# Altium schematic symbol library TeCrea-Misc.SCHLIB: 96 symbols (part 3 of 3)
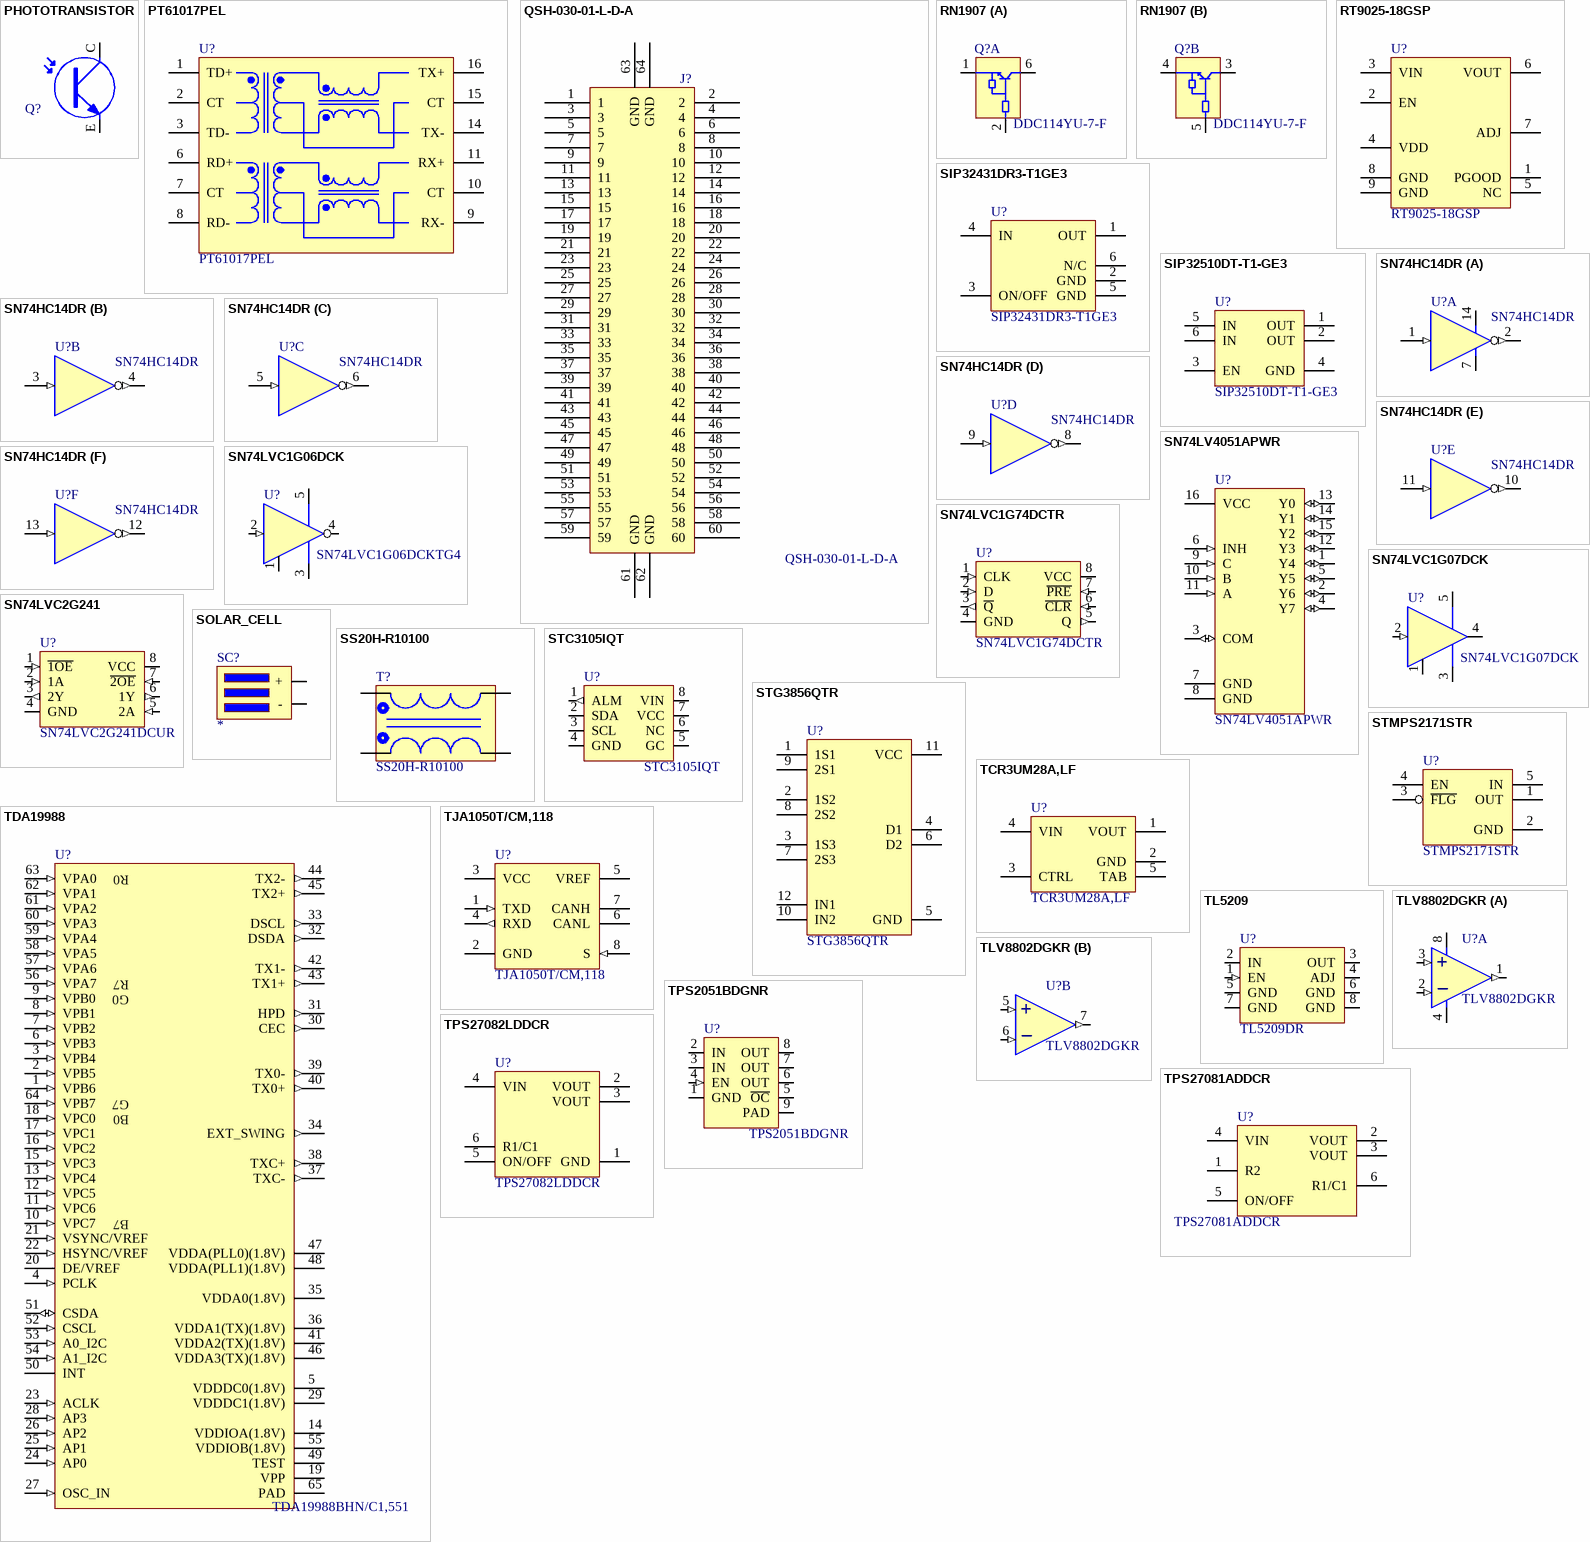
[diagram p6: symbols PHOTOTRANSISTOR to TPS27082LDDCR]

## SN74LV4051APWR
designator U?
IC MUX/DEMUX 8X1 16TSSOP; Manufacturer 1: Texas Instruments; Low Level Output Current: 25mA; Propagation Delay: 12ns; Bandwidth: 35MHz; Number of Channels: 1; Number of Inputs: 8; Max Supply Voltage: 5.5V; Min Supply Voltage: 2V; Nominal Supply Current: 20uA; Polarity: Non-Inverting; Logic Function: Multiplexer,Demultiplexer; On-State Resistance: 75R; Turn-On Delay Time: 28ns; Supply Type: Single; Supplier 1: Digi-Key; Manufacturer Part Number 1: SN74LV4051APWR; RoHS: Yes; Category: Interface ICs; Stock 1: 97091; Pricing 1: 1=0,39000, 10=0,33800, 25=0,31520, 100=0,25200, 250=0,23400, 500=0,19800, 1000=0,15300 (USD); Mount: Surface Mount; Case/Package: TSSOP; Number of Pins: 16; Weight: 0.002183oz; Contact Plating: Gold; Min Operating Temperature: -40°C; Max Operating Temperature: 85°C; Packaging: Tape and Reel; Package Quantity: 2000; High Level Output Current: 25mA; Number of Outputs: 1; Number of Bits: 8; Operating Supply Current: 20uA; Turn-Off Delay Time: 28ns; Number of Circuits: 1; Radiation Hardening: No; Lead Free: Lead Free; REACH SVHC: No SVHC; ComponentLink1URL: https://datasheet.ciiva.com/15127/getdatasheetpartid-300450-15127659.pdf?src-supplier=Verical; ComponentLink1Description: https://datasheet.ciiva.com/15127/getdatasheetpartid-300450-15127659.pdf?src-supplier=Verical; ComponentLink2URL: https://datasheet.ciiva.com/27051/1026350-27051257.pdf?src-supplier=Jameco; ComponentLink2Description: https://datasheet.ciiva.com/27051/1026350-27051257.pdf?src-supplier=Jameco; ComponentLink3URL: https://datasheet.ciiva.com/2980/sn74lv4051a-2980182.pdf?src-supplier=Avnet; ComponentLink3Description: https://datasheet.ciiva.com/2980/sn74lv4051a-2980182.pdf?src-supplier=Avnet; ComponentLink4URL: https://datasheet.ciiva.com/1669/sn74lv4051a-1669786.pdf?src-supplier=Digi-Key; ComponentLink4Description: https://datasheet.ciiva.com/1669/sn74lv4051a-1669786.pdf?src-supplier=Digi-Key; ComponentLink5URL: https://datasheet.ciiva.com/1669/sn74lv4051a-1669788.pdf?src-supplier=Digi-Key; ComponentLink5Description: https://datasheet.ciiva.com/1669/sn74lv4051a-1669788.pdf?src-supplier=Digi-Key; ComponentLink6URL: https://datasheet.ciiva.com/1669/sn74lv4051a-1669787.pdf?src-supplier=Digi-Key; ComponentLink6Description: https://datasheet.ciiva.com/1669/sn74lv4051a-1669787.pdf?src-supplier=Digi-Key; ComponentLink7URL: https://datasheet.ciiva.com/48711/001048021-da-01-en-ic-de-mux-8x-sn74lv4051apwr-tssop-16-tid-48711975.pdf?src-supplier=Conrad; ComponentLink7Description: https://datasheet.ciiva.com/48711/001048021-da-01-en-ic-de-mux-8x-sn74lv4051apwr-tssop-16-tid-48711975.pdf?src-supplier=Conrad; Value: SN74LV4051APWR; Supplier Part Number 1: 296-3829-1-ND
footprint TI-16TSSOP
pins: 1 Y4 (io), 2 Y6 (io), 3 COM (io), 4 Y7 (io), 5 Y5 (io), 6 INH (in), 7 GND, 8 GND, 9 C (in), 10 B (in), 11 A (in), 12 Y3 (io), 13 Y0 (io), 14 Y1 (io), 15 Y2 (io), 16 VCC

## SN74LVC1G06DCK
designator U?, comment SN74LVC1G06DCKTG4
IC INVERTER SINGLE 1INPUT SC705; Manufacturer: Texas Instruments; Logic Type: Inverter, Buffer; Number of Circuits: 1; Voltage - Supply: 1.65 V ~ 5.5 V; Current - Quiescent (Max): 10µA; Current - Output High, Low: -, 32mA; Logic Level - Low: 0.7 V ~ 0.8 V; Logic Level - High: 1.7 V ~ 2 V; Max Propagation Delay @ V, Max CL: 3ns @ 5V, 50pF; Populated: Yes; Supplier 1: Digi-Key; Supplier Part Number 1: SN74LVC1G06DCKTG4-ND; Manufacturer Part Number: SN74LVC1G06DCKTG4; RoHS: RoHS Compliant; Category: Integrated Circuits (ICs); Stock 1: 0; Pricing 1: 1250=0.32 (USD); Number of Inputs: 1; Features: Open Drain; Operating Temperature: -40°C ~ 85°C; Mounting Type: Surface Mount; Supplier Device Package: SC-70-5; Package / Case: 6-TSSOP (5 Lead), SC-88A, SOT-353; Packaging: Tape & Reel (TR); ComponentLink1URL: http://www.ti.com/lit/ds/symlink/sn74lvc1g06.pdf; ComponentLink1Description: http://www.ti.com/lit/ds/symlink/sn74lvc1g06.pdf; Value: SN74LVC1G06DCKTG4
footprint DCK5_2P15X1P4
pins: 1 NC, 2 A (in), 3 GND (power), 4 Y (oc), 5 VCC (power)

## SN74LVC1G07DCK
designator U?
IC BUFF/DVR NON-INVERT SC705; Manufacturer: Texas Instruments; Logic Type: Buffer; Number of Circuits: 1; Voltage - Supply: 1.65 V ~ 5.5 V; Current - Quiescent (Max): 10µA; Current - Output High, Low: -, 32mA; Logic Level - Low: 0.7 V ~ 0.8 V; Logic Level - High: 1.7 V ~ 2 V; Max Propagation Delay @ V, Max CL: 3ns @ 5V, 50pF; Populated: Yes; Manufacturer Part Number: SN74LVC1G07DCK; RoHS: RoHS Compliant; Category: Integrated Circuits (ICs); Number of Inputs: 1; Features: Open Drain; Operating Temperature: -40°C ~ 85°C; Mounting Type: Surface Mount; Supplier Device Package: SC-70-5; Package / Case: 6-TSSOP (5 Lead), SC-88A, SOT-353; Packaging: Tape & Reel (TR); ComponentLink1URL: http://www.ti.com/lit/ds/symlink/sn74lvc1g07.pdf; ComponentLink1Description: http://www.ti.com/lit/ds/symlink/sn74lvc1g07.pdf; Value: SN74LVC1G07DCK; Supplier 1: Digi-Key; Supplier Part Number 1: 296-8486-6-ND
footprint DCK5_2P15X1P4
pins: 1 NC, 2 A (in), 3 GND (power), 4 Y (oc), 5 VCC (power)

## SN74LVC1G74DCTR
designator U?
SINGLE  POSITIVE-EDGE-TRIGGERED  D-TYPE  FLIP-FLOP WITH  CLEAR  AND  PRESET; Manufacturer: Texas Instruments; Function: Set(Preset) and Reset; Output Type: Differential; Number of Elements: 1; Frequency - Clock: 200MHz; Delay Time - Propagation: 1.6ns; Trigger Type: Positive Edge; Current - Output High, Low: 32mA, 32mA; Voltage - Supply: 1.65 V ~ 5.5 V; Populated: Yes; Supplier 1: Digi-Key; Supplier Part Number 1: 296-25553-6-ND; Manufacturer Part Number: SN74LVC1G74DCTR; RoHS: RoHS Compliant; Category: Integrated Circuits (ICs); Stock 1: 131; Pricing 1: 1=0.59, 10=0.494, 25=0.4332, 100=0.3708, 250=0.3216, 500=0.2724, 1000=0.21 (USD); Type: D-Type; Number of Bits per Element: 1; Operating Temperature: -40°C ~ 125°C; Mounting Type: Surface Mount; Package / Case: 8-LSSOP (0.11", 2.80mm Width); Packaging: Digi-Reel®; ComponentLink1URL: http://media.digikey.com/pdf/Data%20Sheets/Texas%20Instruments%20PDFs/SN74LVC1G74.pdf; ComponentLink1Description: http://media.digikey.com/pdf/Data%20Sheets/Texas%20Instruments%20PDFs/SN74LVC1G74.pdf; Value: SN74LVC1G74DCTR
footprint SOP8_DCT
pins: 1 CLK (in), 2 D (in), 3 ~{Q} (out), 4 GND (power), 5 Q (out), 6 ~{CLR} (in), 7 ~{PRE} (in), 8 VCC (power)

## SN74LVC2G241
designator U?, comment SN74LVC2G241DCUR
IC BUFF/DVR TRI-ST DL 8VSSOP; Manufacturer: Texas Instruments; Logic Type: Buffer/Line Driver, Non-Inverting; Number of Elements: 2; Number of Bits per Element: 1; Current - Output High, Low: 32mA, 32mA; Voltage - Supply: 1.65 V ~ 5.5 V; Populated: Yes; Supplier 1: Digi-Key; Supplier Part Number 1: 296-11936-6-ND; Manufacturer Part Number: SN74LVC2G241DCUR; RoHS: RoHS Compliant; Category: Integrated Circuits (ICs); Stock 1: 28602; Pricing 1: 1=0.49, 10=0.428, 25=0.3756 (USD); Operating Temperature: -40°C ~ 85°C; Mounting Type: Surface Mount; Package / Case: 8-VFSOP (0.091", 2.30mm Width); Supplier Device Package: US8; Packaging: Digi-Reel®; ComponentLink1URL: http://www.ti.com/lit/ds/symlink/sn74lvc2g241.pdf; ComponentLink1Description: http://www.ti.com/lit/ds/symlink/sn74lvc2g241.pdf; Value: SN74LVC2G241DCUR
footprint U_8_DCU
pins: 1 ~{1OE} (in), 2 1A (in), 3 2Y (out), 4 GND (power), 5 2A (in), 6 1Y (out), 7 ~{2OE} (in), 8 VCC (power)

## SOLAR_CELL
designator SC?
Solar Cell; Value: *
footprint SOLAR_CELL (Solar Cell PADS)
pins: CELL+ +, CELL- -

## SS20H-R10100
designator T?
COMMON MODE CHOKE 1A 2 LN T/H; Manufacturer: Kemet; Filter Type: Power Line; Number of Lines: 2; Inductance @ Frequency: 10mH @ 1kHz; DC Resistance (DCR) (Max): 420 mOhm; Voltage Rating - AC: 250V; Populated: Yes; Supplier 1: Digi-Key; Supplier Part Number 1: 399-10681-ND; Manufacturer Part Number: SS20H-R10100; RoHS: RoHS Compliant; Category: Filters; Stock 1: 588; Pricing 1: 1=1.45, 10=1.416, 25=0.948, 50=0.8438, 100=0.7731, 250=0.6936, 500=0.67916, 1000=0.4913 (USD); Packaging: Bulk; Impedance @ Frequency: -; Current Rating (Max): 1A; Voltage Rating - DC: -; Operating Temperature: -25°C ~ 120°C; Ratings: -; Approvals: -; Features: -; Mounting Type: Through Hole; Size / Dimension: 0.866" L x 0.886" W (22.00mm x 22.00mm); Height (Max): 0.728" (18.50mm); Package / Case: Vertical, 4 PC Pin; ComponentLink1URL: http://www.kemet.com/docfinder?Partnumber=SS20H-R10100; ComponentLink1Description: http://www.kemet.com/docfinder?Partnumber=SS20H-R10100; Value: SS20H-R10100
footprint SS20H-R10100
pins: 1, 2, 3, 4

## STC3105IQT
designator U?
IC Battery Monitor GAS Gauge 8-TDFN; Manuf1: ST Microelectronics; Populated: Yes; Value: STC3105IQT; ROHS: Yes; PackageReference: TDFN8; Manuf1Partnumber: STC3105IQT; Supplier 1: Digi-Key; Supplier Part Number 1: 497-12092-1-ND
footprint TDFN-8
pins: 1 ALM (out), 2 SDA (io), 3 SCL (io), 4 GND, 5 GC, 6 NC, 7 VCC, 8 VIN

## STG3856QTR
designator U?
IC SWITCH DUAL SP3T 12QFN; Manufacturer: STMicroelectronics; Min Supply Voltage: 1.4V; Max Supply Voltage: 4.3V; Number of Inputs: 2; Number of Outputs: 6; On-State Resistance: 1R; Operating Supply Current: 50nA; Turn-On Delay Time: 50ns; Turn-Off Delay Time: 25ns; Max Power Dissipation: 18.5mW; Supply Type: Single; Supplier 1: Digi-Key; Manufacturer Part Number: STG3856QTR; Stock 1: 13091; Pricing 1: 1 = 1,33000, 10 = 1,18500, 100 = 0,92390, 500 = 0,76324, 1000 = 0,60255 (USD); RoHS: Yes; Mount: Surface Mount; Case/Package: QFN; Number of Pins: 12; Min Operating Temperature: -55°C; Max Operating Temperature: 125°C; Packaging: Tape and Reel; Package Quantity: 3000; Number of Channels: 2; Max Supply Current: 50nA; Throw Configuration: SP3T; Nominal Supply Current: 50nA; Radiation Hardening: No; Lead Free: Lead Free; ComponentLink1URL: https://datasheet.ciiva.com/2980/cd00081251-2980050.pdf?src-supplier=Avnet; ComponentLink1Description: https://datasheet.ciiva.com/2980/cd00081251-2980050.pdf?src-supplier=Avnet; ComponentLink2URL: https://datasheet.ciiva.com/4918/cd00081251-98660-4918076.pdf?src-supplier=Mouser; ComponentLink2Description: https://datasheet.ciiva.com/4918/cd00081251-98660-4918076.pdf?src-supplier=Mouser; ComponentLink3URL: https://datasheet.ciiva.com/41459/001185548-da-01-en-ic-switch-dual-sp3-stg3856qtr-qfn-12-stm-41459878.pdf?src-supplier=Conrad; ComponentLink3Description: https://datasheet.ciiva.com/41459/001185548-da-01-en-ic-switch-dual-sp3-stg3856qtr-qfn-12-stm-41459878.pdf?src-supplier=Conrad; ComponentLink4URL: https://datasheet.ciiva.com/17577/cd00081251-17577109.pdf?src-supplier=Avnet+Europe; ComponentLink4Description: https://datasheet.ciiva.com/17577/cd00081251-17577109.pdf?src-supplier=Avnet+Europe; ComponentLink5URL: https://datasheet.ciiva.com/16490/cd00081251-16490793.pdf?src-supplier=Future+Electronics; ComponentLink5Description: https://datasheet.ciiva.com/16490/cd00081251-16490793.pdf?src-supplier=Future+Electronics; Value: STG3856QTR; Supplier Part Number 1: 497-6174-1-ND
footprint QFN12L (QFN, 12-Leads, Body 1,40x2,20mm, Pitch 0,40mm, IPC Medium Density)
pins: 1 1S1, 2 1S2, 3 1S3, 4 D1, 5 GND, 6 D2, 7 2S3, 8 2S2, 9 2S1, 10 IN2, 11 VCC, 12 IN1

## STMPS2171STR
designator U?
IC PWR SWITCH 1CH 1000MA SOT23-5; Manufacturer: STMicroelectronics; Switch Type: General Purpose; Number of Outputs: 1; Ratio - Input:Output: 1:1; Output Configuration: High Side; Output Type: N-Channel; Interface: On/Off; Voltage - Load: 2.7 V ~ 5.5 V; Voltage - Supply (Vcc/Vdd): Not Required; Current - Output (Max): 1A; Rds On (Typ): 90 mOhm; Input Type: Non-Inverting; Fault Protection: Current Limiting (Fixed), Over Temperature, Reverse Current, UVLO; Supplier 1: Digi-Key; Manufacturer Part Number: STMPS2171STR; RoHS: RoHS Compliant; Category: Integrated Circuits (ICs); Stock 1: 3345; Pricing 1: 1=0.59, 10=0.52, 100=0.3987, 500=0.31518, 1000=0.25214 (USD); Packaging: Cut Tape (CT); Part Status: Active; Features: -; Operating Temperature: -40°C ~ 125°C (TJ); Package / Case: SC-74A, SOT-753; Supplier Device Package: SOT-23-5; ComponentLink1URL: http://www.st.com/content/ccc/resource/technical/document/datasheet/e8/d7/48/25/eb/87/45/b3/CD00167470.pdf/files/CD00167470.pdf/jcr:content/translations/en.CD00167470.pdf; ComponentLink1Description: http://www.st.com/content/ccc/resource/technical/document/datasheet/e8/d7/48/25/eb/87/45/b3/CD00167470.pdf/files/CD00167470.pdf/jcr:content/translations/en.CD00167470.pdf; Value: STMPS2171STR; Supplier Part Number 1: 497-6856-1-ND
footprint SOT23-5L (SOT23, 5-Leads, Body 2.90x2.80mm, Pitch 0.95mm, IPC Medium Density)
pins: 1 OUT, 2 GND, 3 ~{FLG}, 4 EN, 5 IN

## TCR3UM28A,LF
designator U?
LOW DROPOUT (LDO) LINEAR VOLTAGE 2.8V; Manufacturer: Toshiba; Supplier 1: Digi-Key; Manufacturer Part Number: TCR3UM28A,LF; Stock 1: 10000; Pricing 1: 10000 = 0,08525, 30000 = 0,07975, 50000 = 0,07150, 100000 = 0,07040 (USD); Value: TCR3UM28A,LF; Supplier Part Number 1: TCR3UM28ALFTR-ND
footprint DFN-4(TOSHIBA) (DFN4 1x1)
pins: 1 VOUT, 2 GND, 3 CTRL, 4 VIN, 5 TAB

## TDA19988
designator U?, comment TDA19988BHN/C1,551
IC HDMI TRANSMITTER 64-HVQFN; Manufacturer: NXP Semiconductors; Manufacturer Part Number: TDA19988AHN/C1,551; Populated: Yes; RoHS: RoHS Compliant; Category: Integrated Circuits (ICs); Type: HDMI Transmitter; Applications: Set-Top Boxes; Mounting Type: Surface Mount; Package / Case: 64-VFQFN Exposed Pad; Supplier Device Package: 64-HVQFN (9x9); Packaging: Tray; Supplier 1: Digi-Key; Supplier Part Number 1: 568-12058-ND; Value: TDA19988BHN/C1,551
footprint QFN64S9X9P5
pins: 1 VPB6 (in), 2 VPB5 (in), 3 VPB4 (in), 4 PCLK (in), 5 VDDDC0(1.8V) (power), 6 VPB3 (in), 7 VPB2 (in), 8 VPB1 (in), 9 VPB0 (in), 10 VPC7 (in), 11 VPC6 (in), 12 VPC5 (in), 13 VPC4 (in), 14 VDDIOA(1.8V) (power), 15 VPC3 (in), 16 VPC2 (in), 17 VPC1 (in), 18 VPC0 (in), 19 VPP (power), 20 DE/VREF, 21 VSYNC/VREF (in), 22 HSYNC/VREF (in), 23 ACLK (in), 24 AP0 (in), 25 AP1 (in), 26 AP2 (in), 27 OSC_IN (in), 28 AP3 (in), 29 VDDDC1(1.8V) (power), 30 CEC (out), 31 HPD (out), 32 DSDA (out), 33 DSCL (out), 34 EXT_SWING (out), 35 VDDA0(1.8V) (power), 36 VDDA1(TX)(1.8V) (power), 37 TXC- (out), 38 TXC+ (out), 39 TX0- (out), 40 TX0+ (out), 41 VDDA2(TX)(1.8V) (power), 42 TX1- (out), 43 TX1+ (out), 44 TX2- (out), 45 TX2+ (out), 46 VDDA3(TX)(1.8V) (power), 47 VDDA(PLL0)(1.8V) (power), 48 VDDA(PLL1)(1.8V) (power), 49 TEST, 50 INT (oc), 51 CSDA (io), 52 CSCL (in), 53 A0_I2C (in), 54 A1_I2C (in), 55 VDDIOB(1.8V) (power), 56 VPA7 (in), 57 VPA6 (in), 58 VPA5 (in), 59 VPA4 (in), 60 VPA3 (in), 61 VPA2 (in), 62 VPA1 (in), 63 VPA0 (in), 64 VPB7 (in), 65 PAD (power)
text: R0; R7; G0; G7; B0; B7

## TJA1050T/CM,118
designator U?
IC TRANSCEIVER CAN 8SOIC; Manufacturer: NXP USA Inc.; Number of Drivers/Receivers: 1/1; Duplex: Half; Voltage - Supply: 4.75 V ~ 5.25 V; Supplier 1: Digi-Key; Manufacturer Part Number: TJA1050T/CM,118; RoHS: RoHS Compliant; Category: Integrated Circuits (ICs); Stock 1: 39627; Pricing 1: 1=1.01, 10=0.903, 100=0.7041, 500=0.58162, 1000=0.45918 (USD); Packaging: Cut Tape (CT); Part Status: Active; Type: Transceiver; Protocol: CAN; Data Rate: -; Operating Temperature: -; Mounting Type: Surface Mount; Package / Case: 8-SOIC (0.154", 3.90mm Width); Supplier Device Package: 8-SO; ComponentLink1URL: http://www.nxp.com/documents/data_sheet/TJA1050.pdf; ComponentLink1Description: http://www.nxp.com/documents/data_sheet/TJA1050.pdf; Value: TJA1050T/CM,118; Supplier Part Number 1: 568-10292-1-ND
footprint SOIC8 (SOIC, 8-Leads, Body 4.9x3.9mm, Pitch 1.27mm, IPC Medium Density)
pins: 1 TXD (in), 2 GND, 3 VCC, 4 RXD (out), 5 VREF, 6 CANL, 7 CANH, 8 S (in)

## TL5209
designator U?, comment TL5209DR
IC LDO VOLT REG 500MA 8-SOIC; Manuf1: Texas Instruments; Populated: Yes; Supplier 1: Digi-Key; Supplier Part Number 1: 296-21569-6-ND; RoHS: Yes; Pricing 1: 1=1.41, 10=1.244, 25=1.1232, 100=0.9828, 250=0.86192, 500=0.7644, 1000=0.6045 (USD); ComponentLink1URL: http://media.digikey.com/pdf/Data%20Sheets/Texas%20Instruments%20PDFs/TL5209.pdf; ComponentLink1Description: http://media.digikey.com/pdf/Data%20Sheets/Texas%20Instruments%20PDFs/TL5209.pdf; Manuf1Partnumber: TL5209DR; PackageReference: 8-SOIC (0.154", 3.90mm Width); Value: TL5209DR
footprint SO8-25X75
pins: 1 EN (in), 2 IN (power), 3 OUT (power), 4 ADJ, 5 GND (power), 6 GND (power), 7 GND (power), 8 GND (power)

## TLV8802DGKR
designator U?
IC OPAMP GP 2 CIRCUIT 8VSSOP; Manufacturer 1: Texas Instruments; Number of Circuits: 2; Slew Rate: 0.0015V/µs; Gain Bandwidth Product: 6kHz; Input Bias Current: 0.1pA; Input Offset Voltage (Vos): 550uV; Operating Supply Current: 500nA; Output Current per Channel: 4.7mA; Supplier 1: Digi-Key; Manufacturer Part Number 1: TLV8802DGKR; Stock 1: 5971; Pricing 1: 1=1,05000, 10=0,93500, 25=0,88760, 100=0,68160, 250=0,60232, 500=0,57060, 1000=0,44380 (USD); RoHS: Yes; Mount: Surface Mount; Case/Package: TSSOP; Min Operating Temperature: -40°C; Max Operating Temperature: 125°C; Packaging: Tape and Reel; Number of Channels: 2; Lead Free: Lead Free; ComponentLink1URL: http://www.ti.com/lit/ds/symlink/tlv8802.pdf?src-supplier=Digi-Key; ComponentLink1Description: http://www.ti.com/lit/ds/symlink/tlv8802.pdf?src-supplier=Digi-Key; Value: TLV8802DGKR; Supplier Part Number 1: 296-47856-1-ND
footprint 8VSSOP
part A pins: 1 OUTA (out), 2 INA- (in), 3 INA+ (in), 4 V- (power), 8 V+ (power)
part B pins: 5 INB+ (in), 6 INB- (in), 7 OUTB (out)
part A text: +; _
part B text: +; _

## TPS2051BDGNR
designator U?
IC 1.5A PWR DIST SWITCH 8-SOIC; Manufacturer: Texas Instruments; Number of Outputs: 1; Rds (On): 135 mOhm; Internal Switch(s): Yes; Current Limit: 1A; Voltage - Input: 2.7 V ~ 5.5 V; Supplier 1: Digi-Key; Supplier Part Number 1: 296-17313-6-ND; Manufacturer Part Number: TPS2051BDGNR; RoHS: RoHS Compliant; Category: Integrated Circuits (ICs); Stock 1: 7065; Pricing 1: 1=1.82, 10=1.642, 25=1.4708, 100=1.3224, 250=1.1742, 500=1.026, 1000=0.8493 (USD); Type: High Side Switch; Operating Temperature: -40°C ~ 85°C; Mounting Type: Surface Mount; Package / Case: 8-TSSOP, 8-MSOP (0.118", 3.00mm Width) Exposed Pad; Supplier Device Package: 8-MSOP-PowerPad; Packaging: Digi-Reel®; ComponentLink1URL: http://www.ti.com/lit/ds/symlink/tps2051b.pdf; ComponentLink1Description: http://www.ti.com/lit/ds/symlink/tps2051b.pdf; Value: TPS2051BDGNR; Populated: Yes
footprint DGN-16X60
pins: 1 GND (power), 2 IN (power), 3 IN (power), 4 EN (in), 5 ~{OC}, 6 OUT (power), 7 OUT (power), 8 OUT (power), 9 PAD

## TPS27081ADDCR
designator U?
IC LOAD SW HIGH SIDE 6SOT; Manufacturer: Texas Instruments; Number of Outputs: 1; Output Current: 3A; Max Power Dissipation: 1.19W; Max Supply Voltage: 8V; Min Supply Voltage: 1.2V; On-State Resistance: 82mR; Interface: On/Off; Number of Drivers: 2; Supplier 1: Digi-Key; Manufacturer Part Number: TPS27081ADDCR; Stock 1: 494677; Pricing 1: 1 = 0,88000, 10 = 0,77800, 100 = 0,59680, 500 = 0,47174, 1000 = 0,37739 (USD); RoHS: Yes; Mount: Surface Mount; Case/Package: SOT-23-6; Number of Pins: 6; Weight: 0.00127oz; Min Operating Temperature: -40°C; Max Operating Temperature: 85°C; Packaging: Tape and Reel; Package Quantity: 3000; Max Output Current: 3A; Power Dissipation: 1.19W; Number of Channels: 1; Output Configuration: High Side; Length: 3.02mm; Height: 0.8mm; Width: 1.75mm; Radiation Hardening: No; REACH SVHC: No SVHC; Lead Free: Lead Free; ComponentLink1URL: https://datasheet.ciiva.com/22629/tps27081a-22629123.pdf?src-supplier=Element14; ComponentLink1Description: https://datasheet.ciiva.com/22629/tps27081a-22629123.pdf?src-supplier=Element14; ComponentLink2URL: https://datasheet.ciiva.com/23784/1759795-23784067.pdf?src-supplier=Newark; ComponentLink2Description: https://datasheet.ciiva.com/23784/1759795-23784067.pdf?src-supplier=Newark; ComponentLink3URL: https://datasheet.ciiva.com/26909/getdatasheetpartid-643010-26909270.pdf?src-supplier=Verical; ComponentLink3Description: https://datasheet.ciiva.com/26909/getdatasheetpartid-643010-26909270.pdf?src-supplier=Verical; ComponentLink4URL: https://datasheet.ciiva.com/14247/tps27081a-14247815.pdf?src-supplier=Avnet; ComponentLink4Description: https://datasheet.ciiva.com/14247/tps27081a-14247815.pdf?src-supplier=Avnet; ComponentLink5URL: https://datasheet.ciiva.com/6602/tps27081a-6602781.pdf?src-supplier=Digi-Key; ComponentLink5Description: https://datasheet.ciiva.com/6602/tps27081a-6602781.pdf?src-supplier=Digi-Key; ComponentLink6URL: https://datasheet.ciiva.com/14248/tps27081a-14248285.pdf?src-supplier=Avnet; ComponentLink6Description: https://datasheet.ciiva.com/14248/tps27081a-14248285.pdf?src-supplier=Avnet; ComponentLink7URL: https://datasheet.ciiva.com/6602/tps27081a-6602782.pdf?src-supplier=Digi-Key; ComponentLink7Description: https://datasheet.ciiva.com/6602/tps27081a-6602782.pdf?src-supplier=Digi-Key; ComponentLink8URL: https://datasheet.ciiva.com/6602/tps27081a-6602783.pdf?src-supplier=Digi-Key; ComponentLink8Description: https://datasheet.ciiva.com/6602/tps27081a-6602783.pdf?src-supplier=Digi-Key; Value: TPS27081ADDCR; Supplier Part Number 1: 296-34970-1-ND
footprint SOT23-6
pins: 1 R2, 2 VOUT, 3 VOUT, 4 VIN, 5 ON/OFF, 6 R1/C1

## TPS27082LDDCR
designator U?
TEXAS INSTRUMENTS - TPS27082LDDCR - POWER LOAD SW, HIGH-SIDE, 8V, TSOT-23-6; Min Supply Voltage: 1.2V; Number of Channels: 1; Output Current: 3A; Max Power Dissipation: 1.19W; Interface: On/Off; On-State Resistance: 260mR; Output Configuration: High Side; Supplier 1: Digi-Key; Manufacturer 1: Texas Instruments; Manufacturer Part Number 1: TPS27082LDDCR; Stock 1: 149634; Pricing 1: 1=0,89000, 10=0,78200, 25=0,73480, 100=0,55700, 250=0,47400, 500=0,45030, 1000=0,34365 (USD); RoHS: Yes; Mount: Surface Mount; Case/Package: TSOT; Number of Pins: 6; Weight: 0.00127oz; Min Operating Temperature: -40°C; Max Operating Temperature: 125°C; Max Supply Voltage: 8V; Number of Outputs: 1; Packaging: Tape and Reel; Package Quantity: 3000; Max Output Current: 3A; Power Dissipation: 1.19W; Radiation Hardening: No; Lead Free: Lead Free; REACH SVHC: No SVHC; ComponentLink1URL: https://datasheet.ciiva.com/6602/tps27082l-6602787.pdf?src-supplier=Digi-Key; ComponentLink1Description: https://datasheet.ciiva.com/6602/tps27082l-6602787.pdf?src-supplier=Digi-Key; ComponentLink2URL: https://datasheet.ciiva.com/26909/getdatasheetpartid-700474-26909275.pdf?src-supplier=Verical; ComponentLink2Description: https://datasheet.ciiva.com/26909/getdatasheetpartid-700474-26909275.pdf?src-supplier=Verical; ComponentLink3URL: https://datasheet.ciiva.com/6602/tps27082l-6602790.pdf?src-supplier=Digi-Key; ComponentLink3Description: https://datasheet.ciiva.com/6602/tps27082l-6602790.pdf?src-supplier=Digi-Key; Value: TPS27082LDDCR; Supplier Part Number 1: 296-35595-1-ND
footprint SOT23-6
pins: 1 GND, 2 VOUT, 3 VOUT, 4 VIN, 5 ON/OFF, 6 R1/C1

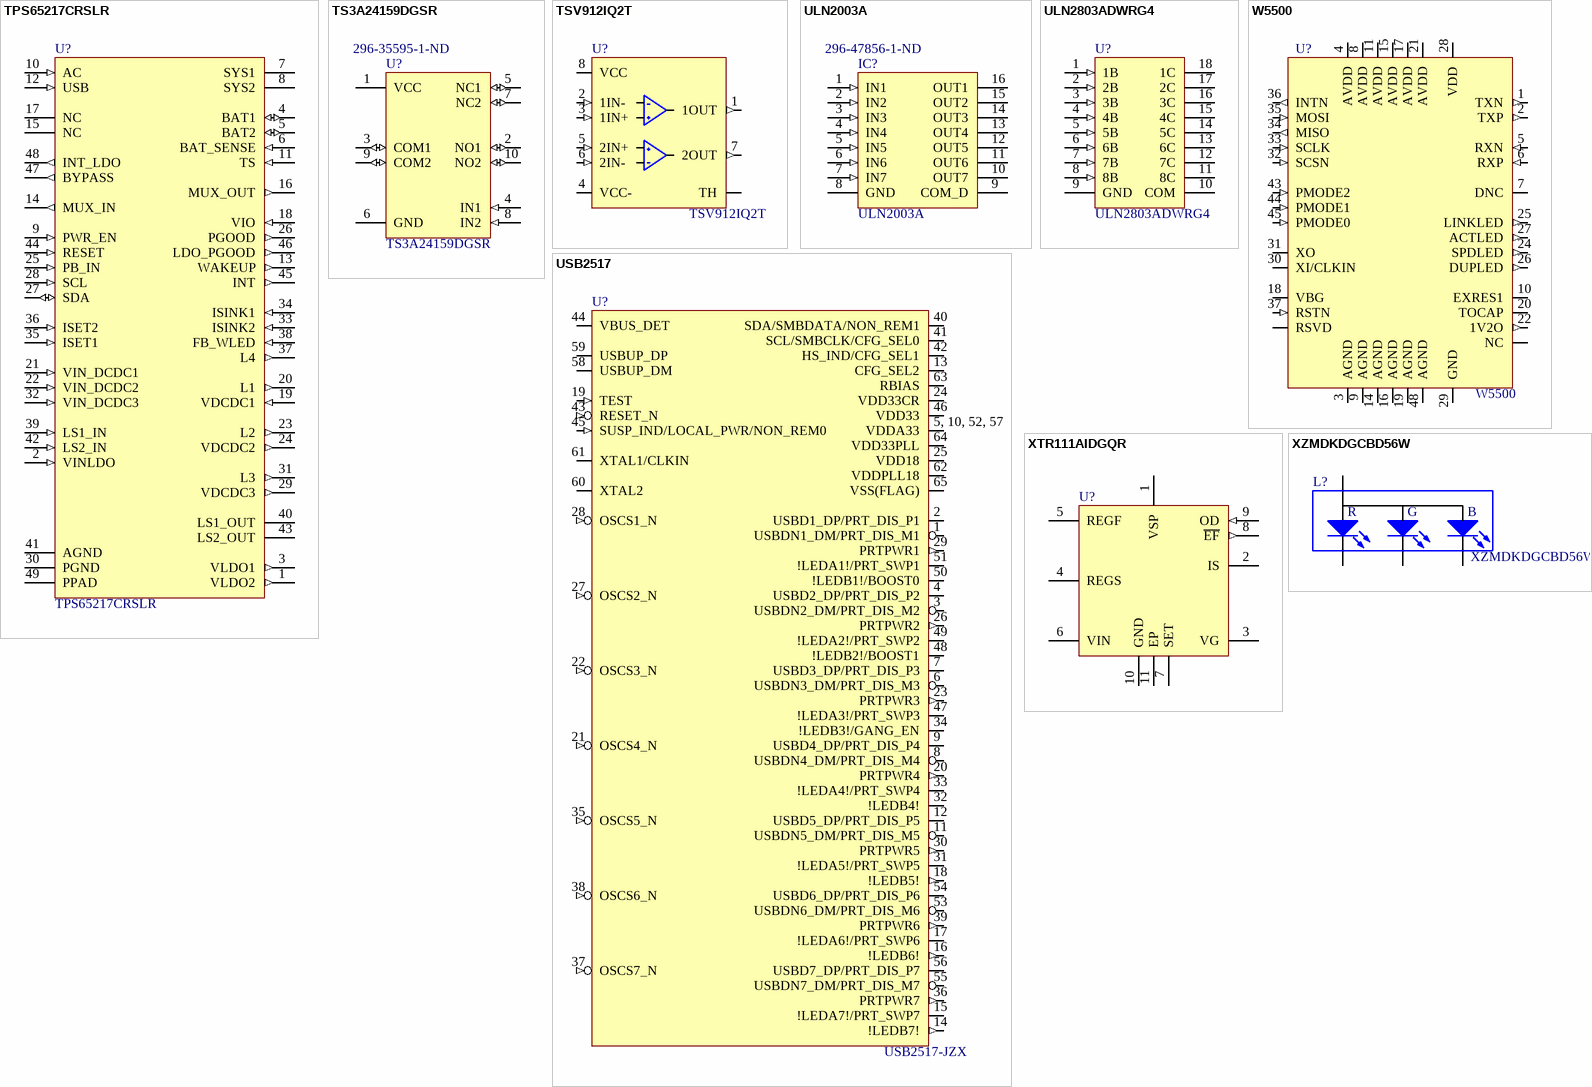
[diagram p4: symbols TPS65217CRSLR to XZMDKDGCBD56W]

## TPS65217CRSLR
designator U?
IC PMIC BATT PWR SYST 48VQFN; Manufacturer: Texas Instruments; Voltage - Supply: 2.75 V ~ 5.8 V; Populated: Yes; Supplier 1: Digi-Key; Supplier Part Number 1: 296-34814-6-ND; Manufacturer Part Number: TPS65217CRSLR; RoHS: RoHS Compliant; Category: Integrated Circuits (ICs); Stock 1: 0; Pricing 1: 1=8.01, 10=7.204, 25=6.5516, 100=4.1918, 250=4.11412, 500=4.0365, 750=3.95888 (USD); Applications: Battery Management, Display (LED Drivers), Handheld/Mobile Devices, Power Supply; Current - Supply: -; Operating Temperature: -40°C ~ 105°C; Mounting Type: Surface Mount; Package / Case: 48-VFQFN Exposed Pad; Supplier Device Package: 48-VQFN-EP (6x6); Packaging: Digi-Reel®; ComponentLink1URL: http://www.ti.com/lit/ds/symlink/tps65217c.pdf; ComponentLink1Description: http://www.ti.com/lit/ds/symlink/tps65217c.pdf; Value: TPS65217CRSLR
footprint U_48_RSL
pins: 1 VLDO2 (out), 2 VINLDO (in), 3 VLDO1 (out), 4 BAT1 (io), 5 BAT2 (io), 6 BAT_SENSE (in), 7 SYS1, 8 SYS2, 9 PWR_EN (in), 10 AC (in), 11 TS (in), 12 USB (in), 13 WAKEUP (out), 14 MUX_IN (out), 15 NC, 16 MUX_OUT (out), 17 NC, 18 VIO (in), 19 VDCDC1 (in), 20 L1 (out), 21 VIN_DCDC1 (in), 22 VIN_DCDC2 (in), 23 L2 (out), 24 VDCDC2 (out), 25 PB_IN (in), 26 PGOOD (out), 27 SDA (io), 28 SCL (in), 29 VDCDC3 (out), 30 PGND (power), 31 L3 (out), 32 VIN_DCDC3 (in), 33 ISINK2 (in), 34 ISINK1 (in), 35 ISET1 (in), 36 ISET2 (in), 37 L4 (out), 38 FB_WLED (in), 39 LS1_IN (in), 40 LS1_OUT, 41 AGND (power), 42 LS2_IN (in), 43 LS2_OUT, 44 RESET (in), 45 INT (out), 46 LDO_PGOOD (out), 47 BYPASS (out), 48 INT_LDO (out), 49 PPAD (power)

## TS3A24159DGSR
designator U?  Supplier Part Number 2: 296-35595-1-ND
IC SWITCH DUAL SPDT 10MSOP; Manufacturer 1: Texas Instruments; Bandwidth: 23MHz; Max Supply Voltage: 3.6V; Min Supply Voltage: 1.65V; Operating Supply Voltage: 3V; Number of Channels: 2; Number of Outputs: 4; Supply Type: Single; On-State Resistance: 300mR; Operating Supply Current: 15nA; Turn-On Delay Time: 35ns; Turn-Off Delay Time: 25ns; Max Supply Current: 100nA; Supplier 1: Digi-Key; Manufacturer Part Number 1: TS3A24159DGSR; RoHS: Yes; Category: Decoders, Multiplexers; Stock 1: 21259; Pricing 1: 1=1,02000, 10=0,90900, 25=0,86240, 100=0,66220, 250=0,58520, 500=0,55440, 1000=0,43120 (USD); Mount: Surface Mount; Case/Package: MSOP; Number of Pins: 10; Weight: 0.000663oz; Min Operating Temperature: -40°C; Max Operating Temperature: 85°C; Packaging: Tape and Reel; Package Quantity: 1; Number of Inputs: 2; Throw Configuration: SPDT; Termination: SMD/SMT; Length: 3mm; Height: 1.02mm; Width: 3mm; Radiation Hardening: No; Lead Free: Lead Free; REACH SVHC: No SVHC; ComponentLink1URL: https://datasheet.ciiva.com/1671/ts3a24159-1671344.pdf?src-supplier=Digi-Key; ComponentLink1Description: https://datasheet.ciiva.com/1671/ts3a24159-1671344.pdf?src-supplier=Digi-Key; ComponentLink2URL: https://datasheet.ciiva.com/15127/getdatasheetpartid-225813-15127469.pdf?src-supplier=Verical; ComponentLink2Description: https://datasheet.ciiva.com/15127/getdatasheetpartid-225813-15127469.pdf?src-supplier=Verical; ComponentLink3URL: https://datasheet.ciiva.com/41461/001187304-da-01-en-ic-switch-dual-ts3a24159dgsr-msop-10-tid-41461680.pdf?src-supplier=Conrad; ComponentLink3Description: https://datasheet.ciiva.com/41461/001187304-da-01-en-ic-switch-dual-ts3a24159dgsr-msop-10-tid-41461680.pdf?src-supplier=Conrad; ComponentLink4URL: https://datasheet.ciiva.com/46411/1857382-46411531.pdf?src-supplier=Element14; ComponentLink4Description: https://datasheet.ciiva.com/46411/1857382-46411531.pdf?src-supplier=Element14; ComponentLink5URL: https://datasheet.ciiva.com/1671/ts3a24159-1671343.pdf?src-supplier=Digi-Key; ComponentLink5Description: https://datasheet.ciiva.com/1671/ts3a24159-1671343.pdf?src-supplier=Digi-Key; ComponentLink6URL: https://datasheet.ciiva.com/1671/ts3a24159-1671345.pdf?src-supplier=Digi-Key; ComponentLink6Description: https://datasheet.ciiva.com/1671/ts3a24159-1671345.pdf?src-supplier=Digi-Key; Value: TS3A24159DGSR; Supplier Part Number 1: 296-21913-1-ND; Supplier 2: Digi-Key
footprint VSSOP-10 (TSSOP, 10-Leads, Body 3,00x3,00mm, Pitch 0,50mm, IPC Medium Density)
pins: 1 VCC, 2 NO1 (io), 3 COM1 (io), 4 IN1 (in), 5 NC1 (io), 6 GND, 7 NC2 (io), 8 IN2 (in), 9 COM2 (io), 10 NO2 (io)

## TSV912IQ2T
designator U?
IC OPAMP GP 8MHZ RRO 8DFN; Manuf1: STMicroelectronics; Populated: Yes; Manuf1Partnumber: TSV912IQ2T; PackageReference: DFN8-2X2; Value: TSV912IQ2T; ROHS: Yes; Supplier 1: Digi-Key; Supplier Part Number 1: 497-12414-1-ND
footprint DFN8-2X2
pins: 1 1OUT (out), 2 1IN- (in), 3 1IN+ (in), 4 VCC-, 5 2IN+ (in), 6 2IN- (in), 7 2OUT (out), 8 VCC (power), TH

## ULN2003A
designator IC?  Supplier Part Number 2: 296-47856-1-ND
TRANS 7NPN DARL 50V 0.5A 16DIP; Manufacturer: STMicroelectronics; Transistor Type: 7 NPN Darlington; Current - Collector (Ic) (Max): 500mA; Vce Saturation (Max) @ Ib, Ic: 1.6V @ 500µA, 350mA; DC Current Gain (hFE) (Min) @ Ic, Vce: 1000 @ 350mA, 2V; Supplier 1: Digi-Key; Manufacturer Part Number: ULN2003A; RoHS: RoHS Compliant; Category: Discrete Semiconductor Products; Stock 1: 18996; Pricing 1: 1=0.5, 10=0.431, 100=0.322, 500=0.253, 1000=0.1955 (USD); Packaging: Tube; Voltage - Collector Emitter Breakdown (Max): 50V; Current - Collector Cutoff (Max): -; Power - Max: -; Frequency - Transition: -; Mounting Type: Through Hole; Package / Case: 16-DIP (0.300", 7.62mm); Supplier Device Package: 16-DIP; ComponentLink1URL: http://www.st.com/web/en/resource/technical/document/datasheet/CD00001244.pdf; ComponentLink1Description: http://www.st.com/web/en/resource/technical/document/datasheet/CD00001244.pdf; Supplier Part Number 1: 497-2344-5-ND; Value: ULN2003A; Supplier 2: Digi-Key
footprint DIL16
pins: 1 IN1 (in), 2 IN2 (in), 3 IN3 (in), 4 IN4 (in), 5 IN5 (in), 6 IN6 (in), 7 IN7 (in), 8 GND (power), 9 COM_D, 10 OUT7 (oc), 11 OUT6 (oc), 12 OUT5 (oc), 13 OUT4 (oc), 14 OUT3 (oc), 15 OUT2 (oc), 16 OUT1 (oc)

## ULN2803ADWRG4
designator U?
TRANS 8NPN DARL 50V 0.5A 18SO; Manufacturer: Texas Instruments; Transistor Type: 8 NPN Darlington; Current - Collector (Ic) (Max): 500mA; Vce Saturation (Max) @ Ib, Ic: 1.6V @ 500µA, 350mA; Supplier 1: Digi-Key; Manufacturer Part Number: ULN2803ADWRG4; RoHS: RoHS Compliant; Category: Discrete Semiconductor Products; Stock 1: 10341; Pricing 1: 1=0.98, 10=0.877, 100=0.684, 500=0.56508, 1000=0.44612 (USD); Packaging: Cut Tape (CT); Part Status: Active; Voltage - Collector Emitter Breakdown (Max): 50V; Current - Collector Cutoff (Max): -; DC Current Gain (hFE) (Min) @ Ic, Vce: -; Power - Max: -; Frequency - Transition: -; Operating Temperature: -40°C ~ 85°C (TA); Mounting Type: Surface Mount; Package / Case: 18-SOIC (0.295", 7.50mm Width); Supplier Device Package: 18-SOIC; ComponentLink1URL: http://www.ti.com/lit/ds/symlink/uln2803a.pdf; ComponentLink1Description: http://www.ti.com/lit/ds/symlink/uln2803a.pdf; Supplier Part Number 1: 296-35964-1-ND; Value: ULN2803ADWRG4
footprint SOIC18-W
pins: 1 1B (in), 2 2B (in), 3 3B (in), 4 4B (in), 5 5B (in), 6 6B (in), 7 7B (in), 8 8B (in), 9 GND, 10 COM, 11 8C, 12 7C, 13 6C, 14 5C, 15 4C, 16 3C, 17 2C, 18 1C

## USB2517
designator U?, comment USB2517-JZX
IC USB 2.0 7Port HUB Controller 64QFN; Manuf1: Microchip Technology; Populated: Yes; Value: USB2517-JZX; ClassName: *; ROHS: Yes; Manuf1Partnumber: USB2517-JZX; HelpURL: *; Code_JEDEC: *; Supplier 1: Digi-Key; Supplier Part Number 1: USB2517-JZX-CT-ND
footprint QFN64
pins: 1 USBDN1_DM/PRT_DIS_M1 (io), 2 USBD1_DP/PRT_DIS_P1 (io), 3 USBDN2_DM/PRT_DIS_M2 (io), 4 USBD2_DP/PRT_DIS_P2 (io), 5, 10, 52, 57 VDDA33, 6 USBDN3_DM/PRT_DIS_M3 (io), 7 USBD3_DP/PRT_DIS_P3 (io), 8 USBDN4_DM/PRT_DIS_M4 (io), 9 USBD4_DP/PRT_DIS_P4 (io), 11 USBDN5_DM/PRT_DIS_M5 (io), 12 USBD5_DP/PRT_DIS_P5 (io), 13 CFG_SEL2, 14 !LEDB7! (out), 15 !LEDA7!/PRT_SWP7, 16 !LEDB6! (out), 17 !LEDA6!/PRT_SWP6, 18 !LEDB5! (out), 19 TEST (in), 20 PRTPWR4 (out), 21 OSCS4_N (in), 22 OSCS3_N (in), 23 PRTPWR3 (out), 24 VDD33CR, 25 VDD18, 26 PRTPWR2 (out), 27 OSCS2_N (in), 28 OSCS1_N (in), 29 PRTPWR1 (out), 30 PRTPWR5 (out), 31 !LEDA5!/PRT_SWP5, 32 !LEDB4!, 33 !LEDA4!/PRT_SWP4, 34 !LEDB3!/GANG_EN, 35 OSCS5_N (in), 36 PRTPWR7 (out), 37 OSCS7_N (in), 38 OSCS6_N (in), 39 PRTPWR6 (out), 40 SDA/SMBDATA/NON_REM1, 41 SCL/SMBCLK/CFG_SEL0, 42 HS_IND/CFG_SEL1, 43 RESET_N (in), 44 VBUS_DET, 45 SUSP_IND/LOCAL_PWR/NON_REM0 (in), 46 VDD33, 47 !LEDA3!/PRT_SWP3, 48 !LEDB2!/BOOST1, 49 !LEDA2!/PRT_SWP2, 50 !LEDB1!/BOOST0, 51 !LEDA1!/PRT_SWP1, 53 USBDN6_DM/PRT_DIS_M6 (io), 54 USBD6_DP/PRT_DIS_P6 (io), 55 USBDN7_DM/PRT_DIS_M7 (io), 56 USBD7_DP/PRT_DIS_P7 (io), 58 USBUP_DM (io), 59 USBUP_DP (io), 60 XTAL2, 61 XTAL1/CLKIN, 62 VDDPLL18, 63 RBIAS, 64 VDD33PLL, 65 VSS(FLAG)

## W5500
designator U?
IC CTLR 3-1 ETH TCP/IP 48LQFP; Manufacturer: WIZnet; Protocol: Ethernet; Function: Controller; Interface: SPI; Standards: 10/100 Base-T/TX PHY; Voltage - Supply: 2.97 V ~ 3.63 V; Current - Supply: 132mA; Populated: Yes; Supplier 1: Digi-Key; Supplier Part Number 1: 1278-1021-ND; Manufacturer Part Number: W5500; RoHS: RoHS Compliant; Category: Integrated Circuits (ICs); Stock 1: 5241; Pricing 1: 1=4.17, 10=3.725, 25=3.3524, 100=3.0545, 250=2.75652, 500=2.4734, 750=2.235, 1000=2.086, 2500=1.9817 (USD); Packaging: Tray; Operating Temperature: -40°C ~ 85°C; Package / Case: 48-LQFP; Supplier Device Package: 48-LQFP (7x7); ComponentLink1URL: http://wizwiki.net/wiki/lib/exe/fetch.php?media=products:w5500:w5500_ds_v106e_141230.pdf; ComponentLink1Description: http://wizwiki.net/wiki/lib/exe/fetch.php?media=products:w5500:w5500_ds_v106e_141230.pdf; Value: W5500
footprint LQFP48
pins: 1 TXN (out), 2 TXP (out), 3 AGND (power), 4 AVDD (power), 5 RXN (in), 6 RXP (in), 7 DNC, 8 AVDD (power), 9 AGND (power), 10 EXRES1, 11 AVDD (power), 12, 13, 46, 47 NC, 14 AGND (power), 15 AVDD (power), 16 AGND (power), 17 AVDD (power), 18 VBG, 19 AGND (power), 20 TOCAP, 21 AVDD (power), 22 1V2O (out), 23, 38, 39, 40, 41, 42 RSVD, 24 SPDLED (out), 25 LINKLED (out), 26 DUPLED (out), 27 ACTLED (out), 28 VDD (power), 29 GND (power), 30 XI/CLKIN, 31 XO, 32 SCSN (in), 33 SCLK (in), 34 MISO (out), 35 MOSI (in), 36 INTN (out), 37 RSTN (in), 43 PMODE2 (in), 44 PMODE1 (in), 45 PMODE0 (in), 48 AGND (power)

## XTR111AIDGQR
designator U?
Precision Voltage To Current Converter/Transmitter 10-Pin HVSSOP EP T/R; Manufacturer 1: Texas Instruments; Manufacturer Part Number 1: XTR111AIDGQR; Output Current: 25mA; Nominal Supply Current: 450uA; Max Supply Voltage: 40V; Min Supply Voltage: 8V; Operating Supply Current: 550uA; Input Bias Current: 25nA; Input Offset Voltage (Vos): 1.5mV; Number of Channels: 1; Accuracy: 0.015%; Number of Amplifiers: 2; XTR111AIDGQR: Value; Supplier 1: Digi-Key; RoHS: Yes; Category: Interface ICs; Stock 1: 6254; Pricing 1: 1=1,69000, 10=1,51600, 25=1,43000, 100=1,14400, 250=1,00100, 500=0,97240, 1000=0,77220 (USD); Mount: Surface Mount; Case/Package: HTSSOP EP; Number of Pins: 10; Contact Plating: Gold; Min Operating Temperature: -40°C; Max Operating Temperature: 125°C; Packaging: Tape and Reel; Package Quantity: 2500; Output Type: Voltage; Output Current per Channel: 25mA; Radiation Hardening: No; Lead Free: Lead Free; REACH SVHC: No SVHC; ComponentLink1URL: https://datasheet.ciiva.com/15135/getdatasheetpartid-456570-15135022.pdf?src-supplier=Verical; ComponentLink1Description: https://datasheet.ciiva.com/15135/getdatasheetpartid-456570-15135022.pdf?src-supplier=Verical; ComponentLink2URL: https://datasheet.ciiva.com/26838/xtr111aidgqr-26838802.pdf?src-supplier=IIIC; ComponentLink2Description: https://datasheet.ciiva.com/26838/xtr111aidgqr-26838802.pdf?src-supplier=IIIC; ComponentLink3URL: https://datasheet.ciiva.com/1782/xtr111-1782019.pdf?src-supplier=Digi-Key; ComponentLink3Description: https://datasheet.ciiva.com/1782/xtr111-1782019.pdf?src-supplier=Digi-Key; Supplier Part Number 1: 296-39545-1-ND
footprint MSOP10-PWR
pins: 1 VSP, 2 IS, 3 VG, 4 REGS, 5 REGF, 6 VIN, 7 SET, 8 ~{EF} (out), 9 OD (in), 10 GND, 11 EP

## XZMDKDGCBD56W
designator L?
LED RGB CLEAR 4SMD R/A; Manufacturer: SunLED; Color: Red, Green, Blue (RGB); Lens Color: Colorless; Millicandela Rating: 79mcd Red, 297mcd Green, 69mcd Blue; Lens Style/Size: Rectangle with Domed Top, 2.00mm x 1.00mm; Voltage - Forward (Vf) (Typ): 1.95V Red, 3.3V Green, 3.3V Blue; Current - Test: 20mA Red, 20mA Green, 20mA Blue; Viewing Angle: 120°; Wavelength - Dominant: 630nm Red, 525nm Green, 465nm Blue; Wavelength - Peak: 645nm Red, 515nm Green, 460nm Blue; Supplier 1: Digi-Key; Manufacturer Part Number: XZMDKDGCBD56W; RoHS: RoHS Compliant; Category: Optoelectronics; Stock 1: 3380; Pricing 1: 1=1.22, 10=0.99, 25=0.7616, 100=0.6856, 250=0.6094, 500=0.518, 1000=0.42658 (USD); Packaging: Cut Tape (CT); Part Status: Active; Lens Transparency: Clear; Mounting Type: Surface Mount, Right Angle; Features: -; Package / Case: 4-SMD, No Lead; Supplier Device Package: Chip LED; Size / Dimension: 3.00mm L x 1.50mm W; Height (Max): 1.00mm; ComponentLink1URL: http://www.sunledusa.com/products/spec/XZMDKDGCBD56W.pdf; ComponentLink1Description: http://www.sunledusa.com/products/spec/XZMDKDGCBD56W.pdf; Value: XZMDKDGCBD56W
footprint XZMDKDGCBD56W
pins: 1 CGREEN, 2 CRED, 3 CBLUE, 4 A
text: R; G; B